# Altium schematic symbol library SCH - POWER - LINEAR VREG - TI LP3878-ADJDDA.SchLib: 1 symbol
Pins are listed as number, name and electrical type; pins without a type are passive.

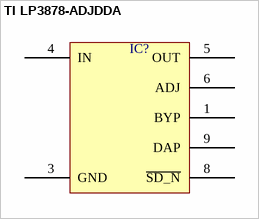
[diagram p0: symbol TI LP3878-ADJDDA]

## TI LP3878-ADJDDA
designator IC?  (value not drawn)
pins: 1 BYP, 3 GND, 4 IN, 5 OUT, 6 ADJ, 8 ~{SD_N}, 9 DAP